# EAGLE library part LMZ23605 (library Aquarius)
LMZ23605 5A SIMPLE SWITCHER® Power Module with 36V Maximum Input Voltage
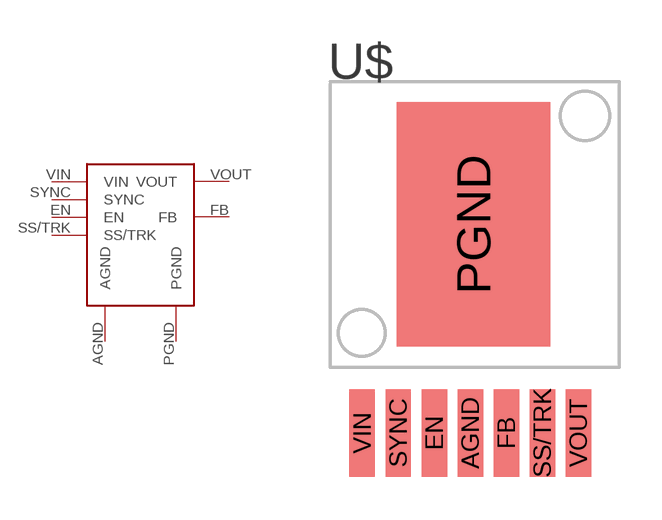
[diagram p0: symbol with the pads of TO-PMOD7; footprint TO-PMOD7]

Designator prefix -

## LMZ23605  [TO-PMOD7]
AGND  AGND  sup
EN  EN
FB  FB
PGND  PGND
SS/TRK  SS/TRK
SYNC  SYNC
VIN  VIN  sup
VOUT  VOUT  sup

## Footprint TO-PMOD7 (pad centres in mm)
smd 0.89 x 3.06: AGND -0.1,-7.3; EN -1.36,-7.3; FB 1.16,-7.3; SS/TRK 2.42,-7.3; SYNC -2.62,-7.3; VIN -3.88,-7.3; VOUT 3.68,-7.3
smd 5.35 x 8.54: PGND 0.01,0